# Altium integrated library CPT-9019A-SMT-TR.IntLib: 1 symbol
Pins are listed as number, name and electrical type; pins without a type are passive.

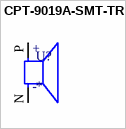
[diagram p0: symbol CPT-9019A-SMT-TR]

## CPT-9019A-SMT-TR
designator U?
9 mm, 25 Vp-p Vdc, 75 dB, Surface Mount (SMT), Piezo Audio Transducer Buzzer; MF: Same Sky; MP: CPT-9019A-SMT-TR; SnapEDA_Link: https://www.snapeda.com/parts/CPT-9019A-SMT-TR/Same+Sky/view-part/?ref=snap; Package: Package; Value: *; Check_prices: https://www.snapeda.com/parts/CPT-9019A-SMT-TR/Same+Sky/view-part/?ref=eda
footprint XDCR_CPT-9019A-SMT-TR
pins: N, P
text: +; -